# Altium integrated library Test Points.IntLib: 2 symbols
Pins are listed as number, name and electrical type; pins without a type are passive.

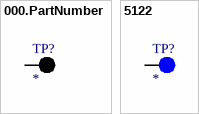
[diagram p0: symbols 000.PartNumber to 5122]

## 000.PartNumber
designator TP?
Digikey Descriptiron; Manufacturer: *; Series: *; Package: *; Type: *; Mounting Type: *; Color: *; Size / Dimension: *; Height: *; Plating: *; Material - Insulation: *; Material - Body: *; Ozdisan Link: *; Digikey Link: *; Farnell TR Link: *; Mouser Link: *
pins: 0

## 5122
designator TP?
PC TEST POINT COMPACT BLUE; Manufacturer: Keystone Electronics; Plating: Silver; Material - Insulation: Nylon 46, UL 94V-0; Material - Body: Phosphor Bronze; Series: THM; Package: Bulk; Type: PC Test Point, Compact; Mounting Type: 0.063" (1.60mm) Hole Diameter; Color: Blue; Size / Dimension: 0.125" Dia x 0.220" L (3.18mm x 5.59mm); Height: -; Ozdisan Link: -; Digikey Link: https://www.digikey.com/en/products/detail/keystone-electronics/5122/2170325; Farnell TR Link: https://tr.farnell.com/keystone/5122/test-point-pcb-blue-through-hole/dp/2501307?st=5122; Mouser Link: https://www.mouser.com.tr/ProductDetail/Keystone-Electronics/5122?qs=sGAEpiMZZMsDgH01pahWBkDP9EoColkVzwtjZLaYX2s%3D
footprint KEYSTONE_5122
pins: 1